# EAGLE library part 1040310811 (library alvie)
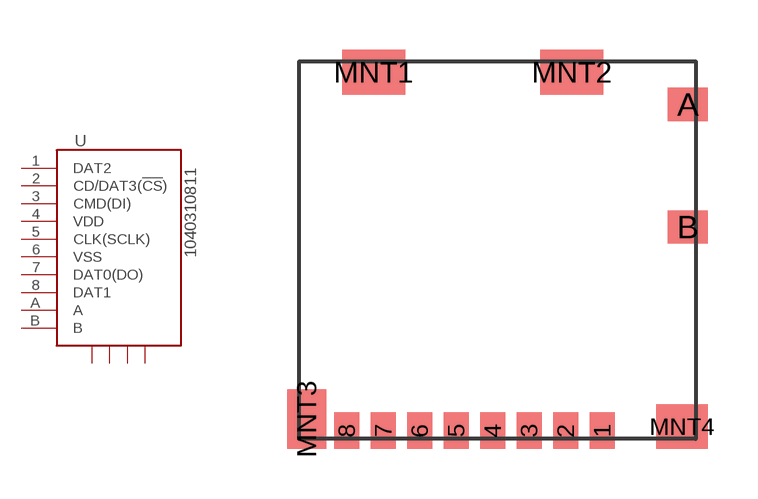
[diagram p68: symbol with the pads of 1040310811; footprint 1040310811]

Designator prefix -

## 1040310811  [1040310811]
1  DAT2
2  CD/DAT3(!CS!)
3  CMD(DI)
4  VDD  pwr
5  CLK(SCLK)  in
6  VSS  pwr
7  DAT0(DO)
8  DAT1
A  A  pas
B  B  pas
MNT1  S1  pas
MNT2  S2  pas
MNT3  S3  pas
MNT4  S4  pas

## Footprint 1040310811 (pad centres in mm)
smd 0.75 x 1.1: 1 3.155,-5.45; 2 2.055,-5.45; 3 0.955,-5.45; 4 -0.145,-5.45; 5 -1.245,-5.45; 6 -2.345,-5.45; 7 -3.445,-5.45; 8 -4.545,-5.45
smd 1.2 x 1: A 5.74,4.4; B 5.74,0.7
smd 1.9 x 1.35: MNT1 -3.73,5.375; MNT2 2.24,5.375
smd 1.17 x 1.8: MNT3 -5.755,-5.1
smd 1.55 x 1.35: MNT4 5.565,-5.325